# EAGLE library part LA5744TP (library kitt.ic)
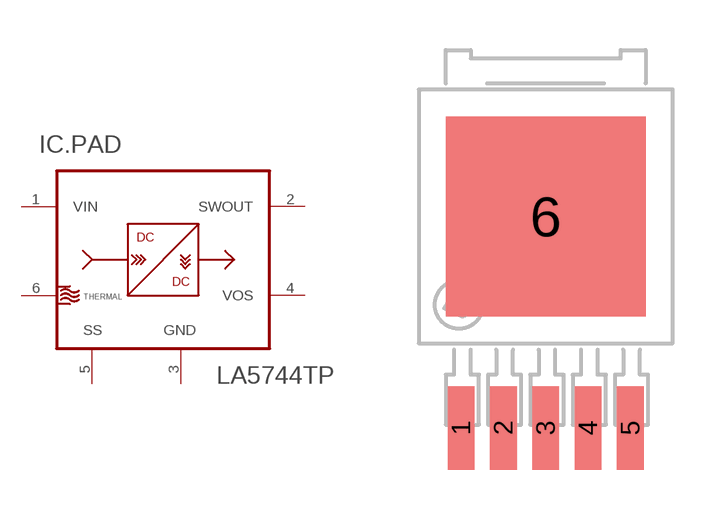
[diagram p1: symbol with the pads of TP-HPA; footprint TP-HPA]

Designator prefix IC; gates .PAD=LA5744TP G$2=THERMAL

## LA5744TP  [TP-HPA]
1  .PAD:VIN
2  .PAD:SWOUT
3  .PAD:GND
4  .PAD:VOS
5  .PAD:SS
6  G$2:THERMAL

## Footprint TP-HPA (pad centres in mm)
smd 0.8 x 2.5: 1 -2.54,-6.35; 2 -1.27,-6.35; 3 0,-6.35; 4 1.27,-6.35; 5 2.54,-6.35
smd 6 x 6: 6 0,0